# Altium integrated library Linear Technology Charge_Pump.IntLib: 599 symbols (part 4 of 29)
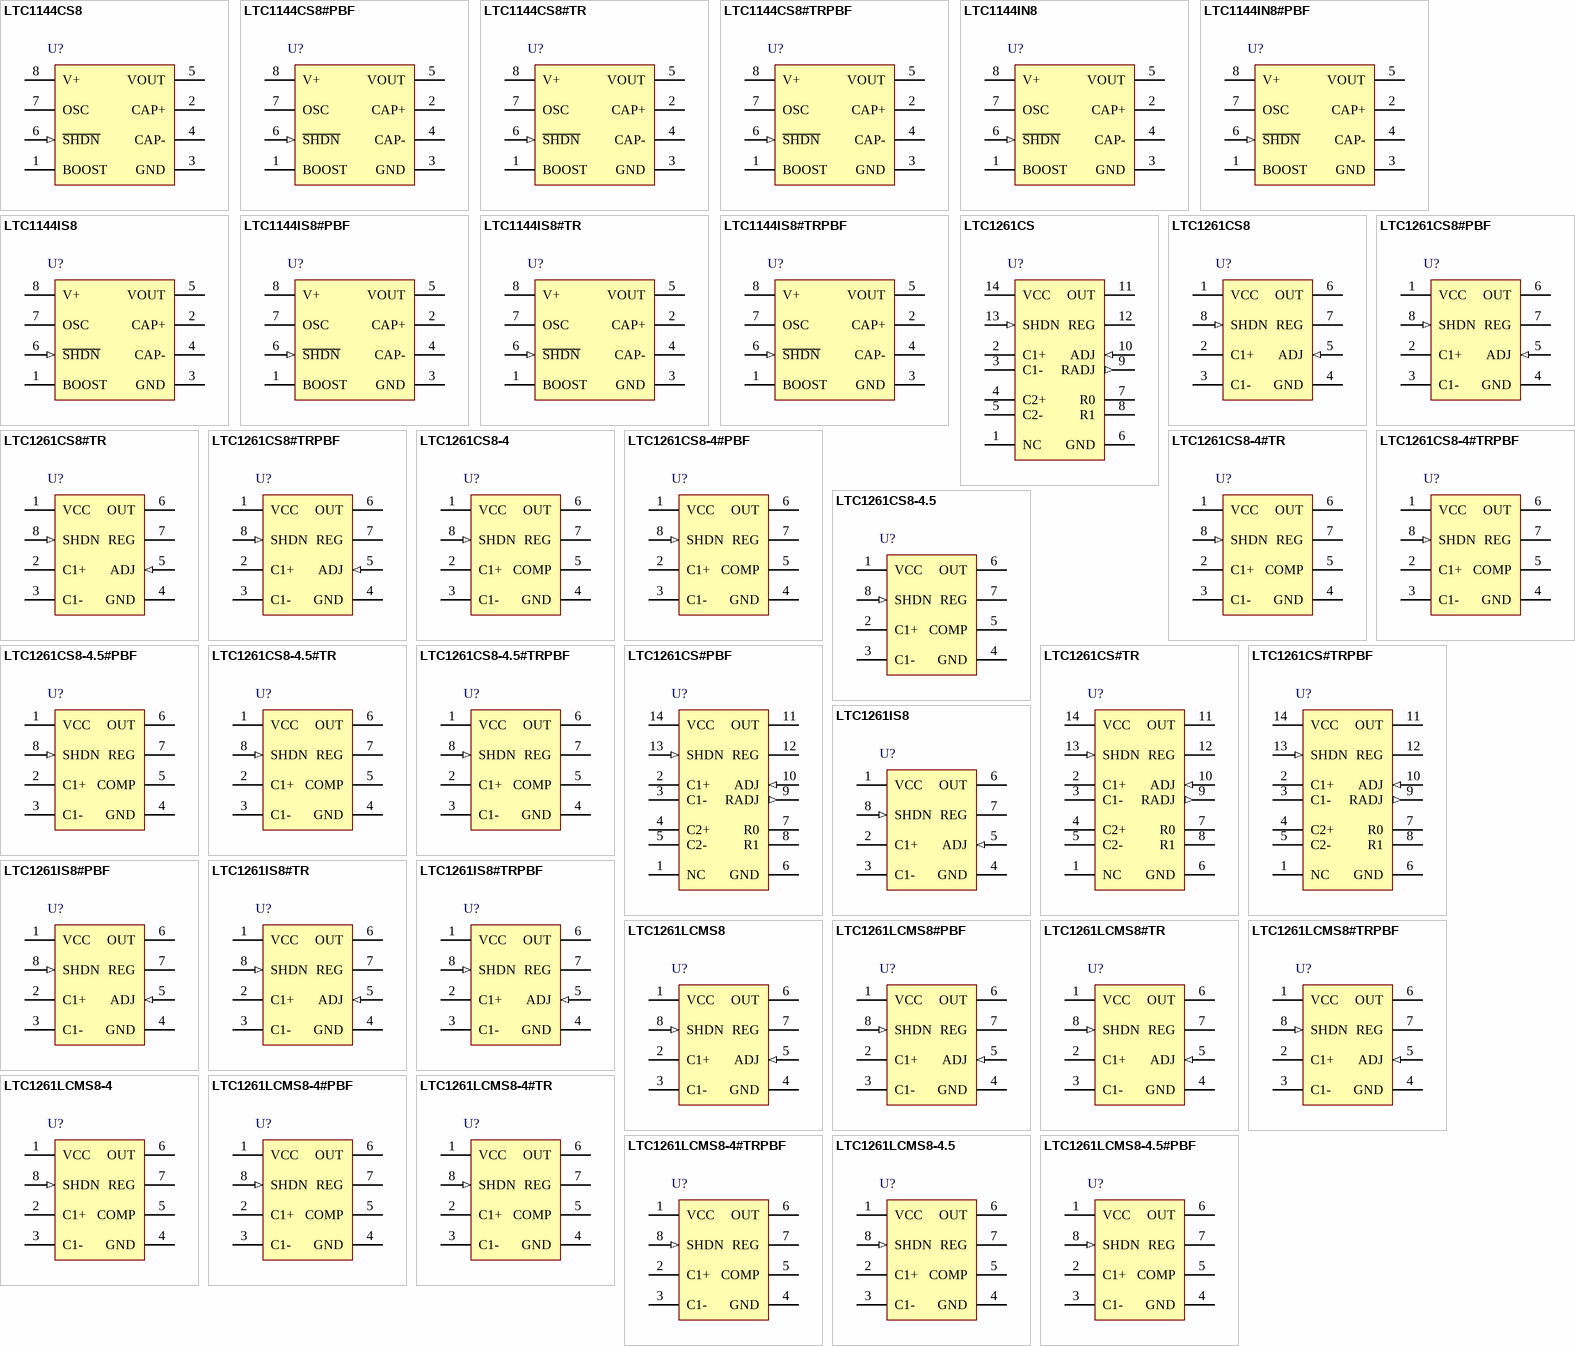
[diagram p19: symbols LTC1144CS8 to LTC1261LCMS8-4.5#PBF]

## LTC1144IS8#TR
designator U?
Switched-Capacitor Wide Input Range Voltage Converter with Shutdown, 8-pin SOIC (S8-8), -40 to 85 degC, Tape and Reel; Manufacturer: Linear Technology; PartNumber: LTC1144IS8#TR; Frequency(kHz): 10; Ishutdown(uA): 8; Isupply(mA): 1.1; Max Iout(mA): 50; Vin Max(V): 18; Vin Min(V): 2; Voutput: 2Vin, -Vin, 0.5Vin; PackageVersion: Rev. G, 03/2012; PackageReference: S8-8; PackageDescription: 8-Pin Plastic Small Outline (Narrow .150 Inch), Body 4.9 x 3.9 mm, Pitch 1.27 mm; Supplier 1: Digi-Key; Supplier Part Number 1: LTC1144IS8#TR-ND; Packing: Tape and Reel; RoHS: FALSE; Mounting Technology: Surface Mount; ComponentLink1Description: Manufacturer URL; ComponentLink1URL: http://www.linear.com/; ComponentLink2Description: Datasheet; ComponentLink2URL: http://cds.linear.com/docs/en/datasheet/lt1144.pdf; ComponentLink3Description: Package Specification; ComponentLink3URL: http://cds.linear.com/docs/en/packaging/05081610_G_SO8.pdf
footprint LT-S8-8_N (SOIC, 8-Leads, Body 5x4mm, Pitch 1.27mm, IPC Medium Density)
footprint LT-S8-8_L (SOIC, 8-Leads, Body 5x4mm, Pitch 1.27mm, IPC High Density)
footprint LT-S8-8_M (SOIC, 8-Leads, Body 5x4mm, Pitch 1.27mm, IPC Low Density)
pins: 1 BOOST "This pin will raise the oscillator frequency by a factor of 10 if tied high.", 2 CAP+ "Positive Terminal for Pump Capacitor.", 3 GND (power) "Ground Reference.", 4 CAP- "Negative Terminal for Pump Capacitor.", 5 VOUT (power) "Output of the Converter.", 6 ~{SHDN} (in) "Shutdown Pin. Tie to V+ pin or leave floating for normal operation. Tie to ground when in shutdown mode.", 7 OSC "Oscillator Input Pin. This pin can be overdriven with an external clock or can be slowed down by connecting an external capacitor between this pin and ground.", 8 V+ (power) "Input Voltage."

## LTC1144IS8#TRPBF
designator U?
Switched-Capacitor Wide Input Range Voltage Converter with Shutdown, 8-pin SOIC (S8-8), -40 to 85 degC, Pb-Free, Tape and Reel; Manufacturer: Linear Technology; PartNumber: LTC1144IS8#TRPBF; Frequency(kHz): 10; Ishutdown(uA): 8; Isupply(mA): 1.1; Max Iout(mA): 50; Vin Max(V): 18; Vin Min(V): 2; Voutput: 2Vin, -Vin, 0.5Vin; PackageVersion: Rev. G, 03/2012; PackageReference: S8-8; PackageDescription: 8-Pin Plastic Small Outline (Narrow .150 Inch), Body 4.9 x 3.9 mm, Pitch 1.27 mm; Supplier 1: Digi-Key; Supplier Part Number 1: LTC1144IS8#TRPBF-ND; Supplier 2: Newark; Supplier Part Number 2: 55M9292; Packing: Tape and Reel; RoHS: TRUE; Mounting Technology: Surface Mount; ComponentLink1Description: Manufacturer URL; ComponentLink1URL: http://www.linear.com/; ComponentLink2Description: Datasheet; ComponentLink2URL: http://cds.linear.com/docs/en/datasheet/lt1144.pdf; ComponentLink3Description: Package Specification; ComponentLink3URL: http://cds.linear.com/docs/en/packaging/05081610_G_SO8.pdf
footprint LT-S8-8_N (SOIC, 8-Leads, Body 5x4mm, Pitch 1.27mm, IPC Medium Density)
footprint LT-S8-8_L (SOIC, 8-Leads, Body 5x4mm, Pitch 1.27mm, IPC High Density)
footprint LT-S8-8_M (SOIC, 8-Leads, Body 5x4mm, Pitch 1.27mm, IPC Low Density)
pins: 1 BOOST "This pin will raise the oscillator frequency by a factor of 10 if tied high.", 2 CAP+ "Positive Terminal for Pump Capacitor.", 3 GND (power) "Ground Reference.", 4 CAP- "Negative Terminal for Pump Capacitor.", 5 VOUT (power) "Output of the Converter.", 6 ~{SHDN} (in) "Shutdown Pin. Tie to V+ pin or leave floating for normal operation. Tie to ground when in shutdown mode.", 7 OSC "Oscillator Input Pin. This pin can be overdriven with an external clock or can be slowed down by connecting an external capacitor between this pin and ground.", 8 V+ (power) "Input Voltage."

## LTC1261CS
designator U?
Switched Capacitor Regulated Voltage Inverter, 3 to 8 V Vin, Adjustable Vout, 14-pin SOIC (S-14), 0 to 70 degC; Manufacturer: Linear Technology; PartNumber: LTC1261CS; Frequency(kHz): 550; Ishutdown(uA): 5; Isupply(mA): 0.6; Max Iout(mA): 12; Vin Max(V): 8; Vin Min(V): 3; Voutput: Adj; DatasheetVersion: Rev. B; PackageVersion: Rev. G, 03/2012; PackageReference: S-14; PackageDescription: 14-Pin Plastic Small Outline, Body 8.65 x 3.9 mm, Pitch 1.27 mm; Supplier 1: Digi-Key; Supplier Part Number 1: LTC1261CS-ND; RoHS: FALSE; Mounting Technology: Surface Mount; ComponentLink1Description: Manufacturer URL; ComponentLink1URL: http://www.linear.com/; ComponentLink2Description: Datasheet; ComponentLink2URL: http://cds.linear.com/docs/en/datasheet/1261fb.pdf; ComponentLink3Description: Package Specification; ComponentLink3URL: http://cds.linear.com/docs/en/packaging/05081610_G_S14.pdf
footprint LT-S-14_N (SOIC, 14-Leads, Body 8.7x4mm, Pitch 1.27mm, IPC Medium Density)
footprint LT-S-14_L (SOIC, 14-Leads, Body 8.7x4mm, Pitch 1.27mm, IPC High Density)
footprint LT-S-14_M (SOIC, 14-Leads, Body 8.7x4mm, Pitch 1.27mm, IPC Low Density)
pins: 1 NC "No Internal Connection.", 2 C1+ "C1 Positive Input. Connect a 0.1uF capacitor between C1+ and C1-. With the LTC1261CS in doubler mode, connect a 0.1uF capacitor from C1+ to C2-.", 3 C1- "C1 Negative Input. Connect a 0.1uF capacitor from C1+ to C1-. With the LTC1261CS in doubler mode only, C1- should float.", 4 C2+ "C2 Positive Input. In tripler mode connect a 0.1uF capacitor from C2+ to C2-. This pin is used with the LTC1261CS in tripler mode only; in doubler mode this pin should float.", 5 C2- "C2 Negative Input. In tripler mode connect a 0.1uF capacitor from C2+ to C2-. In doubler mode connect a 0.1uF capacitor from C1+ to C2-.", 6 GND (power) "Ground. Connect to a low impedance ground. A ground plane will help to minimize regulation errors.", 7 R0 "Internal Resistor String, 1st Tap. See Table 2 in the Applications Information section for information on internal resistor string pin connections vs output voltage.", 8 R1 "Internal Resistor String, 2nd Tap.", 9 RADJ (out) "Internal Resistor String Output. Connect this pin to ADJ to use the internal resistor divider. See Table 2 in the Applications Information section for information on internal resistor string pin connections vs output voltage.", 10 ADJ (in) "Output Adjust/Compensation Pin. For adjustable parts this pin is used to set the output voltage. The output voltage should be divided down with a resistor divider and fed back to this pin to set the regulated output voltage. (See Datasheet)", 11 OUT (power) "Negative Voltage Output. This pin must be bypassed to ground with a 1uF or larger capacitor; it must be at least 3.3uF to provide specified output ripple. The size of the output capacitor has a strong effect on output ripple.(See Datasheet)", 12 REG (oc) "This is an open drain output that pulls low when the output voltage is within 5% of the set value. It will sink 8mA to ground with a 5V supply. The external circuitry must provide a pull-up or REG will not swing high. The (See Datasheet)", 13 SHDN (in) "Shutdown. When this pin is at ground the LTC1261 operates normally. An internal 5uA pull-down keeps SHDN low if it is left floating. When SHDN is pulled high, the LTC1261 enters shutdown mode. In shutdown the charge pump (See Datasheet)", 14 VCC (power) "Power Supply. This requires an input voltage between 3V and 6.5V. Certain combinations of output voltage and operating mode may place additional restrictions on the input voltage. VCC must be bypassed to ground with at least (See Datasheet)"

## LTC1261CS8
designator U?
Switched Capacitor Regulated Voltage Inverter, 3 to 8 V Vin, Adjustable Vout, 8-pin SOIC (S8-8), 0 to 70 degC; Manufacturer: Linear Technology; PartNumber: LTC1261CS8; Frequency(kHz): 550; Ishutdown(uA): 5; Isupply(mA): 0.6; Max Iout(mA): 12; Vin Max(V): 8; Vin Min(V): 3; Voutput: Adj; DatasheetVersion: Rev. B; PackageVersion: Rev. G, 03/2012; PackageReference: S8-8; PackageDescription: 8-Pin Plastic Small Outline (Narrow .150 Inch), Body 4.9 x 3.9 mm, Pitch 1.27 mm; Supplier 1: Digi-Key; Supplier Part Number 1: LTC1261CS8-ND; RoHS: FALSE; Mounting Technology: Surface Mount; ComponentLink1Description: Manufacturer URL; ComponentLink1URL: http://www.linear.com/; ComponentLink2Description: Datasheet; ComponentLink2URL: http://cds.linear.com/docs/en/datasheet/1261fb.pdf; ComponentLink3Description: Package Specification; ComponentLink3URL: http://cds.linear.com/docs/en/packaging/05081610_G_SO8.pdf
footprint LT-S8-8_N (SOIC, 8-Leads, Body 5x4mm, Pitch 1.27mm, IPC Medium Density)
footprint LT-S8-8_L (SOIC, 8-Leads, Body 5x4mm, Pitch 1.27mm, IPC High Density)
footprint LT-S8-8_M (SOIC, 8-Leads, Body 5x4mm, Pitch 1.27mm, IPC Low Density)
pins: 1 VCC (power) "Power Supply.", 2 C1+ "C1 Positive Input. Connect a 0.1uF capacitor between C1+ and C1-.", 3 C1- "C1 Negative Input. Connect a 0.1uF capacitor from C1+ to C1-.", 4 GND (power) "Ground. Connect to a low impedance ground. A ground plane will help to minimize regulation errors.", 5 ADJ (in), 6 OUT (power), 7 REG (oc) "This is an open-drain output that pulls low when the output voltage is within 5% of the set value.", 8 SHDN (in) "Shutdown."

## LTC1261CS8#PBF
designator U?
Switched Capacitor Regulated Voltage Inverter, 3 to 8 V Vin, Adjustable Vout, 8-pin SOIC (S8-8), 0 to 70 degC, Pb-Free; Manufacturer: Linear Technology; PartNumber: LTC1261CS8#PBF; Frequency(kHz): 550; Ishutdown(uA): 5; Isupply(mA): 0.6; Max Iout(mA): 12; Vin Max(V): 8; Vin Min(V): 3; Voutput: Adj; DatasheetVersion: Rev. B; PackageVersion: Rev. G, 03/2012; PackageReference: S8-8; PackageDescription: 8-Pin Plastic Small Outline (Narrow .150 Inch), Body 4.9 x 3.9 mm, Pitch 1.27 mm; Supplier 1: Digi-Key; Supplier Part Number 1: LTC1261CS8#PBF-ND; Supplier 2: Farnell; Supplier Part Number 2: 1273847; Supplier 3: Newark; Supplier Part Number 3: 55M9781; RoHS: TRUE; Mounting Technology: Surface Mount; ComponentLink1Description: Manufacturer URL; ComponentLink1URL: http://www.linear.com/; ComponentLink2Description: Datasheet; ComponentLink2URL: http://cds.linear.com/docs/en/datasheet/1261fb.pdf; ComponentLink3Description: Package Specification; ComponentLink3URL: http://cds.linear.com/docs/en/packaging/05081610_G_SO8.pdf
footprint LT-S8-8_N (SOIC, 8-Leads, Body 5x4mm, Pitch 1.27mm, IPC Medium Density)
footprint LT-S8-8_L (SOIC, 8-Leads, Body 5x4mm, Pitch 1.27mm, IPC High Density)
footprint LT-S8-8_M (SOIC, 8-Leads, Body 5x4mm, Pitch 1.27mm, IPC Low Density)
pins: 1 VCC (power) "Power Supply.", 2 C1+ "C1 Positive Input. Connect a 0.1uF capacitor between C1+ and C1-.", 3 C1- "C1 Negative Input. Connect a 0.1uF capacitor from C1+ to C1-.", 4 GND (power) "Ground. Connect to a low impedance ground. A ground plane will help to minimize regulation errors.", 5 ADJ (in), 6 OUT (power), 7 REG (oc) "This is an open-drain output that pulls low when the output voltage is within 5% of the set value.", 8 SHDN (in) "Shutdown."

## LTC1261CS8#TR
designator U?
Switched Capacitor Regulated Voltage Inverter, 3 to 8 V Vin, Adjustable Vout, 8-pin SOIC (S8-8), 0 to 70 degC, Tape and Reel; Manufacturer: Linear Technology; PartNumber: LTC1261CS8#TR; Frequency(kHz): 550; Ishutdown(uA): 5; Isupply(mA): 0.6; Max Iout(mA): 12; Vin Max(V): 8; Vin Min(V): 3; Voutput: Adj; DatasheetVersion: Rev. B; PackageVersion: Rev. G, 03/2012; PackageReference: S8-8; PackageDescription: 8-Pin Plastic Small Outline (Narrow .150 Inch), Body 4.9 x 3.9 mm, Pitch 1.27 mm; Supplier 1: Digi-Key; Supplier Part Number 1: LTC1261CS8#TR-ND; Packing: Tape and Reel; RoHS: FALSE; Mounting Technology: Surface Mount; ComponentLink1Description: Manufacturer URL; ComponentLink1URL: http://www.linear.com/; ComponentLink2Description: Datasheet; ComponentLink2URL: http://cds.linear.com/docs/en/datasheet/1261fb.pdf; ComponentLink3Description: Package Specification; ComponentLink3URL: http://cds.linear.com/docs/en/packaging/05081610_G_SO8.pdf
footprint LT-S8-8_N (SOIC, 8-Leads, Body 5x4mm, Pitch 1.27mm, IPC Medium Density)
footprint LT-S8-8_L (SOIC, 8-Leads, Body 5x4mm, Pitch 1.27mm, IPC High Density)
footprint LT-S8-8_M (SOIC, 8-Leads, Body 5x4mm, Pitch 1.27mm, IPC Low Density)
pins: 1 VCC (power) "Power Supply.", 2 C1+ "C1 Positive Input. Connect a 0.1uF capacitor between C1+ and C1-.", 3 C1- "C1 Negative Input. Connect a 0.1uF capacitor from C1+ to C1-.", 4 GND (power) "Ground. Connect to a low impedance ground. A ground plane will help to minimize regulation errors.", 5 ADJ (in), 6 OUT (power), 7 REG (oc) "This is an open-drain output that pulls low when the output voltage is within 5% of the set value.", 8 SHDN (in) "Shutdown."

## LTC1261CS8#TRPBF
designator U?
Switched Capacitor Regulated Voltage Inverter, 3 to 8 V Vin, Adjustable Vout, 8-pin SOIC (S8-8), 0 to 70 degC, Pb-Free, Tape and Reel; Manufacturer: Linear Technology; PartNumber: LTC1261CS8#TRPBF; Frequency(kHz): 550; Ishutdown(uA): 5; Isupply(mA): 0.6; Max Iout(mA): 12; Vin Max(V): 8; Vin Min(V): 3; Voutput: Adj; DatasheetVersion: Rev. B; PackageVersion: Rev. G, 03/2012; PackageReference: S8-8; PackageDescription: 8-Pin Plastic Small Outline (Narrow .150 Inch), Body 4.9 x 3.9 mm, Pitch 1.27 mm; Supplier 1: Digi-Key; Supplier Part Number 1: LTC1261CS8#TRPBF-ND; Packing: Tape and Reel; RoHS: TRUE; Mounting Technology: Surface Mount; ComponentLink1Description: Manufacturer URL; ComponentLink1URL: http://www.linear.com/; ComponentLink2Description: Datasheet; ComponentLink2URL: http://cds.linear.com/docs/en/datasheet/1261fb.pdf; ComponentLink3Description: Package Specification; ComponentLink3URL: http://cds.linear.com/docs/en/packaging/05081610_G_SO8.pdf
footprint LT-S8-8_N (SOIC, 8-Leads, Body 5x4mm, Pitch 1.27mm, IPC Medium Density)
footprint LT-S8-8_L (SOIC, 8-Leads, Body 5x4mm, Pitch 1.27mm, IPC High Density)
footprint LT-S8-8_M (SOIC, 8-Leads, Body 5x4mm, Pitch 1.27mm, IPC Low Density)
pins: 1 VCC (power) "Power Supply.", 2 C1+ "C1 Positive Input. Connect a 0.1uF capacitor between C1+ and C1-.", 3 C1- "C1 Negative Input. Connect a 0.1uF capacitor from C1+ to C1-.", 4 GND (power) "Ground. Connect to a low impedance ground. A ground plane will help to minimize regulation errors.", 5 ADJ (in), 6 OUT (power), 7 REG (oc) "This is an open-drain output that pulls low when the output voltage is within 5% of the set value.", 8 SHDN (in) "Shutdown."

## LTC1261CS8-4
designator U?
Switched Capacitor Regulated Voltage Inverter, 3 to 8 V Vin, -4 V Vout, 8-pin SOIC (S8-8), 0 to 70 degC; Manufacturer: Linear Technology; PartNumber: LTC1261CS8-4; Frequency(kHz): 550; Ishutdown(uA): 5; Isupply(mA): 0.6; Max Iout(mA): 12; Vin Max(V): 8; Vin Min(V): 3; Voutput: -4 V; DatasheetVersion: Rev. B; PackageVersion: Rev. G, 03/2012; PackageReference: S8-8; PackageDescription: 8-Pin Plastic Small Outline (Narrow .150 Inch), Body 4.9 x 3.9 mm, Pitch 1.27 mm; Supplier 1: Digi-Key; Supplier Part Number 1: LTC1261CS8-4-ND; RoHS: FALSE; Mounting Technology: Surface Mount; ComponentLink1Description: Manufacturer URL; ComponentLink1URL: http://www.linear.com/; ComponentLink2Description: Datasheet; ComponentLink2URL: http://cds.linear.com/docs/en/datasheet/1261fb.pdf; ComponentLink3Description: Package Specification; ComponentLink3URL: http://cds.linear.com/docs/en/packaging/05081610_G_SO8.pdf
footprint LT-S8-8_N (SOIC, 8-Leads, Body 5x4mm, Pitch 1.27mm, IPC Medium Density)
footprint LT-S8-8_L (SOIC, 8-Leads, Body 5x4mm, Pitch 1.27mm, IPC High Density)
footprint LT-S8-8_M (SOIC, 8-Leads, Body 5x4mm, Pitch 1.27mm, IPC Low Density)
pins: 1 VCC (power), 2 C1+ "C1 Positive Input. Connect a 0.1uF capacitor between C1+ and C1-.", 3 C1- "C1 Negative Input. Connect a 0.1uF capacitor from C1+ to C1-.", 4 GND (power) "Ground. Connect to a low impedance ground. A ground plane will help to minimize regulation errors.", 5 COMP "Output Adjust/Compensation Pin. For adjustable parts this pin is used to set the output voltage. The output voltage should be divided down with a resistor divider and feedback to this pin to set the regulated output voltage. (See Datasheet)", 6 OUT (power), 7 REG (oc) "This is an open drain output that pulls low when the output voltage is within 5% of the set value. It will sink 8mA to ground with a 5V supply. The external circuitry must provide a pull-up or REG will not swing high. The (See Datasheet)", 8 SHDN (in)

## LTC1261CS8-4#PBF
designator U?
Switched Capacitor Regulated Voltage Inverter, 3 to 8 V Vin, -4 V Vout, 8-pin SOIC (S8-8), 0 to 70 degC, Pb-Free; Manufacturer: Linear Technology; PartNumber: LTC1261CS8-4#PBF; Frequency(kHz): 550; Ishutdown(uA): 5; Isupply(mA): 0.6; Max Iout(mA): 12; Vin Max(V): 8; Vin Min(V): 3; Voutput: -4 V; DatasheetVersion: Rev. B; PackageVersion: Rev. G, 03/2012; PackageReference: S8-8; PackageDescription: 8-Pin Plastic Small Outline (Narrow .150 Inch), Body 4.9 x 3.9 mm, Pitch 1.27 mm; Supplier 1: Digi-Key; Supplier Part Number 1: LTC1261CS8-4#PBF-ND; Supplier 2: Newark; Supplier Part Number 2: 55M9778; RoHS: TRUE; Mounting Technology: Surface Mount; ComponentLink1Description: Manufacturer URL; ComponentLink1URL: http://www.linear.com/; ComponentLink2Description: Datasheet; ComponentLink2URL: http://cds.linear.com/docs/en/datasheet/1261fb.pdf; ComponentLink3Description: Package Specification; ComponentLink3URL: http://cds.linear.com/docs/en/packaging/05081610_G_SO8.pdf
footprint LT-S8-8_N (SOIC, 8-Leads, Body 5x4mm, Pitch 1.27mm, IPC Medium Density)
footprint LT-S8-8_L (SOIC, 8-Leads, Body 5x4mm, Pitch 1.27mm, IPC High Density)
footprint LT-S8-8_M (SOIC, 8-Leads, Body 5x4mm, Pitch 1.27mm, IPC Low Density)
pins: 1 VCC (power), 2 C1+ "C1 Positive Input. Connect a 0.1uF capacitor between C1+ and C1-.", 3 C1- "C1 Negative Input. Connect a 0.1uF capacitor from C1+ to C1-.", 4 GND (power) "Ground. Connect to a low impedance ground. A ground plane will help to minimize regulation errors.", 5 COMP "Output Adjust/Compensation Pin. For adjustable parts this pin is used to set the output voltage. The output voltage should be divided down with a resistor divider and feedback to this pin to set the regulated output voltage. (See Datasheet)", 6 OUT (power), 7 REG (oc) "This is an open drain output that pulls low when the output voltage is within 5% of the set value. It will sink 8mA to ground with a 5V supply. The external circuitry must provide a pull-up or REG will not swing high. The (See Datasheet)", 8 SHDN (in)

## LTC1261CS8-4#TR
designator U?
Switched Capacitor Regulated Voltage Inverter, 3 to 8 V Vin, -4 V Vout, 8-pin SOIC (S8-8), 0 to 70 degC, Tape and Reel; Manufacturer: Linear Technology; PartNumber: LTC1261CS8-4#TR; Frequency(kHz): 550; Ishutdown(uA): 5; Isupply(mA): 0.6; Max Iout(mA): 12; Vin Max(V): 8; Vin Min(V): 3; Voutput: -4 V; DatasheetVersion: Rev. B; PackageVersion: Rev. G, 03/2012; PackageReference: S8-8; PackageDescription: 8-Pin Plastic Small Outline (Narrow .150 Inch), Body 4.9 x 3.9 mm, Pitch 1.27 mm; Supplier 1: Digi-Key; Supplier Part Number 1: LTC1261CS8-4#TR-ND; Packing: Tape and Reel; RoHS: FALSE; Mounting Technology: Surface Mount; ComponentLink1Description: Manufacturer URL; ComponentLink1URL: http://www.linear.com/; ComponentLink2Description: Datasheet; ComponentLink2URL: http://cds.linear.com/docs/en/datasheet/1261fb.pdf; ComponentLink3Description: Package Specification; ComponentLink3URL: http://cds.linear.com/docs/en/packaging/05081610_G_SO8.pdf
footprint LT-S8-8_N (SOIC, 8-Leads, Body 5x4mm, Pitch 1.27mm, IPC Medium Density)
footprint LT-S8-8_L (SOIC, 8-Leads, Body 5x4mm, Pitch 1.27mm, IPC High Density)
footprint LT-S8-8_M (SOIC, 8-Leads, Body 5x4mm, Pitch 1.27mm, IPC Low Density)
pins: 1 VCC (power), 2 C1+ "C1 Positive Input. Connect a 0.1uF capacitor between C1+ and C1-.", 3 C1- "C1 Negative Input. Connect a 0.1uF capacitor from C1+ to C1-.", 4 GND (power) "Ground. Connect to a low impedance ground. A ground plane will help to minimize regulation errors.", 5 COMP "Output Adjust/Compensation Pin. For adjustable parts this pin is used to set the output voltage. The output voltage should be divided down with a resistor divider and feedback to this pin to set the regulated output voltage. (See Datasheet)", 6 OUT (power), 7 REG (oc) "This is an open drain output that pulls low when the output voltage is within 5% of the set value. It will sink 8mA to ground with a 5V supply. The external circuitry must provide a pull-up or REG will not swing high. The (See Datasheet)", 8 SHDN (in)

## LTC1261CS8-4#TRPBF
designator U?
Switched Capacitor Regulated Voltage Inverter, 3 to 8 V Vin, -4 V Vout, 8-pin SOIC (S8-8), 0 to 70 degC, Pb-Free, Tape and Reel; Manufacturer: Linear Technology; PartNumber: LTC1261CS8-4#TRPBF; Frequency(kHz): 550; Ishutdown(uA): 5; Isupply(mA): 0.6; Max Iout(mA): 12; Vin Max(V): 8; Vin Min(V): 3; Voutput: -4 V; DatasheetVersion: Rev. B; PackageVersion: Rev. G, 03/2012; PackageReference: S8-8; PackageDescription: 8-Pin Plastic Small Outline (Narrow .150 Inch), Body 4.9 x 3.9 mm, Pitch 1.27 mm; Supplier 1: Digi-Key; Supplier Part Number 1: LTC1261CS8-4#TRPBF-ND; Packing: Tape and Reel; RoHS: TRUE; Mounting Technology: Surface Mount; ComponentLink1Description: Manufacturer URL; ComponentLink1URL: http://www.linear.com/; ComponentLink2Description: Datasheet; ComponentLink2URL: http://cds.linear.com/docs/en/datasheet/1261fb.pdf; ComponentLink3Description: Package Specification; ComponentLink3URL: http://cds.linear.com/docs/en/packaging/05081610_G_SO8.pdf
footprint LT-S8-8_N (SOIC, 8-Leads, Body 5x4mm, Pitch 1.27mm, IPC Medium Density)
footprint LT-S8-8_L (SOIC, 8-Leads, Body 5x4mm, Pitch 1.27mm, IPC High Density)
footprint LT-S8-8_M (SOIC, 8-Leads, Body 5x4mm, Pitch 1.27mm, IPC Low Density)
pins: 1 VCC (power), 2 C1+ "C1 Positive Input. Connect a 0.1uF capacitor between C1+ and C1-.", 3 C1- "C1 Negative Input. Connect a 0.1uF capacitor from C1+ to C1-.", 4 GND (power) "Ground. Connect to a low impedance ground. A ground plane will help to minimize regulation errors.", 5 COMP "Output Adjust/Compensation Pin. For adjustable parts this pin is used to set the output voltage. The output voltage should be divided down with a resistor divider and feedback to this pin to set the regulated output voltage. (See Datasheet)", 6 OUT (power), 7 REG (oc) "This is an open drain output that pulls low when the output voltage is within 5% of the set value. It will sink 8mA to ground with a 5V supply. The external circuitry must provide a pull-up or REG will not swing high. The (See Datasheet)", 8 SHDN (in)

## LTC1261CS8-4.5
designator U?
Switched Capacitor Regulated Voltage Inverter, 3 to 8 V Vin, -4.5 V Vout, 8-pin SOIC (S8-8), 0 to 70 degC; Manufacturer: Linear Technology; PartNumber: LTC1261CS8-4.5; Frequency(kHz): 550; Ishutdown(uA): 5; Isupply(mA): 0.6; Max Iout(mA): 12; Vin Max(V): 8; Vin Min(V): 3; Voutput: -4.5 V; DatasheetVersion: Rev. B; PackageVersion: Rev. G, 03/2012; PackageReference: S8-8; PackageDescription: 8-Pin Plastic Small Outline (Narrow .150 Inch), Body 4.9 x 3.9 mm, Pitch 1.27 mm; Supplier 1: Digi-Key; Supplier Part Number 1: LTC1261CS8-4.5-ND; RoHS: FALSE; Mounting Technology: Surface Mount; ComponentLink1Description: Manufacturer URL; ComponentLink1URL: http://www.linear.com/; ComponentLink2Description: Datasheet; ComponentLink2URL: http://cds.linear.com/docs/en/datasheet/1261fb.pdf; ComponentLink3Description: Package Specification; ComponentLink3URL: http://cds.linear.com/docs/en/packaging/05081610_G_SO8.pdf
footprint LT-S8-8_N (SOIC, 8-Leads, Body 5x4mm, Pitch 1.27mm, IPC Medium Density)
footprint LT-S8-8_L (SOIC, 8-Leads, Body 5x4mm, Pitch 1.27mm, IPC High Density)
footprint LT-S8-8_M (SOIC, 8-Leads, Body 5x4mm, Pitch 1.27mm, IPC Low Density)
pins: 1 VCC (power), 2 C1+ "C1 Positive Input. Connect a 0.1uF capacitor between C1+ and C1-.", 3 C1- "C1 Negative Input. Connect a 0.1uF capacitor from C1+ to C1-.", 4 GND (power) "Ground. Connect to a low impedance ground. A ground plane will help to minimize regulation errors.", 5 COMP "Output Adjust/Compensation Pin. For adjustable parts this pin is used to set the output voltage. The output voltage should be divided down with a resistor divider and feedback to this pin to set the regulated output voltage. (See Datasheet)", 6 OUT (power), 7 REG (oc) "This is an open drain output that pulls low when the output voltage is within 5% of the set value. It will sink 8mA to ground with a 5V supply. The external circuitry must provide a pull-up or REG will not swing high. The (See Datasheet)", 8 SHDN (in)

## LTC1261CS8-4.5#PBF
designator U?
Switched Capacitor Regulated Voltage Inverter, 3 to 8 V Vin, -4.5 V Vout, 8-pin SOIC (S8-8), 0 to 70 degC, Pb-Free; Manufacturer: Linear Technology; PartNumber: LTC1261CS8-4.5#PBF; Frequency(kHz): 550; Ishutdown(uA): 5; Isupply(mA): 0.6; Max Iout(mA): 12; Vin Max(V): 8; Vin Min(V): 3; Voutput: -4.5 V; DatasheetVersion: Rev. B; PackageVersion: Rev. G, 03/2012; PackageReference: S8-8; PackageDescription: 8-Pin Plastic Small Outline (Narrow .150 Inch), Body 4.9 x 3.9 mm, Pitch 1.27 mm; Supplier 1: Digi-Key; Supplier Part Number 1: LTC1261CS8-4.5#PBF-ND; RoHS: TRUE; Mounting Technology: Surface Mount; ComponentLink1Description: Manufacturer URL; ComponentLink1URL: http://www.linear.com/; ComponentLink2Description: Datasheet; ComponentLink2URL: http://cds.linear.com/docs/en/datasheet/1261fb.pdf; ComponentLink3Description: Package Specification; ComponentLink3URL: http://cds.linear.com/docs/en/packaging/05081610_G_SO8.pdf
footprint LT-S8-8_N (SOIC, 8-Leads, Body 5x4mm, Pitch 1.27mm, IPC Medium Density)
footprint LT-S8-8_L (SOIC, 8-Leads, Body 5x4mm, Pitch 1.27mm, IPC High Density)
footprint LT-S8-8_M (SOIC, 8-Leads, Body 5x4mm, Pitch 1.27mm, IPC Low Density)
pins: 1 VCC (power), 2 C1+ "C1 Positive Input. Connect a 0.1uF capacitor between C1+ and C1-.", 3 C1- "C1 Negative Input. Connect a 0.1uF capacitor from C1+ to C1-.", 4 GND (power) "Ground. Connect to a low impedance ground. A ground plane will help to minimize regulation errors.", 5 COMP "Output Adjust/Compensation Pin. For adjustable parts this pin is used to set the output voltage. The output voltage should be divided down with a resistor divider and feedback to this pin to set the regulated output voltage. (See Datasheet)", 6 OUT (power), 7 REG (oc) "This is an open drain output that pulls low when the output voltage is within 5% of the set value. It will sink 8mA to ground with a 5V supply. The external circuitry must provide a pull-up or REG will not swing high. The (See Datasheet)", 8 SHDN (in)

## LTC1261CS8-4.5#TR
designator U?
Switched Capacitor Regulated Voltage Inverter, 3 to 8 V Vin, -4.5 V Vout, 8-pin SOIC (S8-8), 0 to 70 degC, Tape and Reel; Manufacturer: Linear Technology; PartNumber: LTC1261CS8-4.5#TR; Frequency(kHz): 550; Ishutdown(uA): 5; Isupply(mA): 0.6; Max Iout(mA): 12; Vin Max(V): 8; Vin Min(V): 3; Voutput: -4.5 V; DatasheetVersion: Rev. B; PackageVersion: Rev. G, 03/2012; PackageReference: S8-8; PackageDescription: 8-Pin Plastic Small Outline (Narrow .150 Inch), Body 4.9 x 3.9 mm, Pitch 1.27 mm; Supplier 1: Digi-Key; Supplier Part Number 1: LTC1261CS8-4.5#TR-ND; Packing: Tape and Reel; RoHS: FALSE; Mounting Technology: Surface Mount; ComponentLink1Description: Manufacturer URL; ComponentLink1URL: http://www.linear.com/; ComponentLink2Description: Datasheet; ComponentLink2URL: http://cds.linear.com/docs/en/datasheet/1261fb.pdf; ComponentLink3Description: Package Specification; ComponentLink3URL: http://cds.linear.com/docs/en/packaging/05081610_G_SO8.pdf
footprint LT-S8-8_N (SOIC, 8-Leads, Body 5x4mm, Pitch 1.27mm, IPC Medium Density)
footprint LT-S8-8_L (SOIC, 8-Leads, Body 5x4mm, Pitch 1.27mm, IPC High Density)
footprint LT-S8-8_M (SOIC, 8-Leads, Body 5x4mm, Pitch 1.27mm, IPC Low Density)
pins: 1 VCC (power), 2 C1+ "C1 Positive Input. Connect a 0.1uF capacitor between C1+ and C1-.", 3 C1- "C1 Negative Input. Connect a 0.1uF capacitor from C1+ to C1-.", 4 GND (power) "Ground. Connect to a low impedance ground. A ground plane will help to minimize regulation errors.", 5 COMP "Output Adjust/Compensation Pin. For adjustable parts this pin is used to set the output voltage. The output voltage should be divided down with a resistor divider and feedback to this pin to set the regulated output voltage. (See Datasheet)", 6 OUT (power), 7 REG (oc) "This is an open drain output that pulls low when the output voltage is within 5% of the set value. It will sink 8mA to ground with a 5V supply. The external circuitry must provide a pull-up or REG will not swing high. The (See Datasheet)", 8 SHDN (in)

## LTC1261CS8-4.5#TRPBF
designator U?
Switched Capacitor Regulated Voltage Inverter, 3 to 8 V Vin, -4.5 V Vout, 8-pin SOIC (S8-8), 0 to 70 degC, Pb-Free, Tape and Reel; Manufacturer: Linear Technology; PartNumber: LTC1261CS8-4.5#TRPBF; Frequency(kHz): 550; Ishutdown(uA): 5; Isupply(mA): 0.6; Max Iout(mA): 12; Vin Max(V): 8; Vin Min(V): 3; Voutput: -4.5 V; DatasheetVersion: Rev. B; PackageVersion: Rev. G, 03/2012; PackageReference: S8-8; PackageDescription: 8-Pin Plastic Small Outline (Narrow .150 Inch), Body 4.9 x 3.9 mm, Pitch 1.27 mm; Supplier 1: Digi-Key; Supplier Part Number 1: LTC1261CS8-4.5#TRPBF-ND; Packing: Tape and Reel; RoHS: TRUE; Mounting Technology: Surface Mount; ComponentLink1Description: Manufacturer URL; ComponentLink1URL: http://www.linear.com/; ComponentLink2Description: Datasheet; ComponentLink2URL: http://cds.linear.com/docs/en/datasheet/1261fb.pdf; ComponentLink3Description: Package Specification; ComponentLink3URL: http://cds.linear.com/docs/en/packaging/05081610_G_SO8.pdf
footprint LT-S8-8_N (SOIC, 8-Leads, Body 5x4mm, Pitch 1.27mm, IPC Medium Density)
footprint LT-S8-8_L (SOIC, 8-Leads, Body 5x4mm, Pitch 1.27mm, IPC High Density)
footprint LT-S8-8_M (SOIC, 8-Leads, Body 5x4mm, Pitch 1.27mm, IPC Low Density)
pins: 1 VCC (power), 2 C1+ "C1 Positive Input. Connect a 0.1uF capacitor between C1+ and C1-.", 3 C1- "C1 Negative Input. Connect a 0.1uF capacitor from C1+ to C1-.", 4 GND (power) "Ground. Connect to a low impedance ground. A ground plane will help to minimize regulation errors.", 5 COMP "Output Adjust/Compensation Pin. For adjustable parts this pin is used to set the output voltage. The output voltage should be divided down with a resistor divider and feedback to this pin to set the regulated output voltage. (See Datasheet)", 6 OUT (power), 7 REG (oc) "This is an open drain output that pulls low when the output voltage is within 5% of the set value. It will sink 8mA to ground with a 5V supply. The external circuitry must provide a pull-up or REG will not swing high. The (See Datasheet)", 8 SHDN (in)

## LTC1261CS#PBF
designator U?
Switched Capacitor Regulated Voltage Inverter, 3 to 8 V Vin, Adjustable Vout, 14-pin SOIC (S-14), 0 to 70 degC, Pb-Free; Manufacturer: Linear Technology; PartNumber: LTC1261CS#PBF; Frequency(kHz): 550; Ishutdown(uA): 5; Isupply(mA): 0.6; Max Iout(mA): 12; Vin Max(V): 8; Vin Min(V): 3; Voutput: Adj; DatasheetVersion: Rev. B; PackageVersion: Rev. G, 03/2012; PackageReference: S-14; PackageDescription: 14-Pin Plastic Small Outline, Body 8.65 x 3.9 mm, Pitch 1.27 mm; Supplier 1: Digi-Key; Supplier Part Number 1: LTC1261CS#PBF-ND; RoHS: TRUE; Mounting Technology: Surface Mount; ComponentLink1Description: Manufacturer URL; ComponentLink1URL: http://www.linear.com/; ComponentLink2Description: Datasheet; ComponentLink2URL: http://cds.linear.com/docs/en/datasheet/1261fb.pdf; ComponentLink3Description: Package Specification; ComponentLink3URL: http://cds.linear.com/docs/en/packaging/05081610_G_S14.pdf
footprint LT-S-14_N (SOIC, 14-Leads, Body 8.7x4mm, Pitch 1.27mm, IPC Medium Density)
footprint LT-S-14_L (SOIC, 14-Leads, Body 8.7x4mm, Pitch 1.27mm, IPC High Density)
footprint LT-S-14_M (SOIC, 14-Leads, Body 8.7x4mm, Pitch 1.27mm, IPC Low Density)
pins: 1 NC "No Internal Connection.", 2 C1+ "C1 Positive Input. Connect a 0.1uF capacitor between C1+ and C1-. With the LTC1261CS in doubler mode, connect a 0.1uF capacitor from C1+ to C2-.", 3 C1- "C1 Negative Input. Connect a 0.1uF capacitor from C1+ to C1-. With the LTC1261CS in doubler mode only, C1- should float.", 4 C2+ "C2 Positive Input. In tripler mode connect a 0.1uF capacitor from C2+ to C2-. This pin is used with the LTC1261CS in tripler mode only; in doubler mode this pin should float.", 5 C2- "C2 Negative Input. In tripler mode connect a 0.1uF capacitor from C2+ to C2-. In doubler mode connect a 0.1uF capacitor from C1+ to C2-.", 6 GND (power) "Ground. Connect to a low impedance ground. A ground plane will help to minimize regulation errors.", 7 R0 "Internal Resistor String, 1st Tap. See Table 2 in the Applications Information section for information on internal resistor string pin connections vs output voltage.", 8 R1 "Internal Resistor String, 2nd Tap.", 9 RADJ (out) "Internal Resistor String Output. Connect this pin to ADJ to use the internal resistor divider. See Table 2 in the Applications Information section for information on internal resistor string pin connections vs output voltage.", 10 ADJ (in) "Output Adjust/Compensation Pin. For adjustable parts this pin is used to set the output voltage. The output voltage should be divided down with a resistor divider and fed back to this pin to set the regulated output voltage. (See Datasheet)", 11 OUT (power) "Negative Voltage Output. This pin must be bypassed to ground with a 1uF or larger capacitor; it must be at least 3.3uF to provide specified output ripple. The size of the output capacitor has a strong effect on output ripple.(See Datasheet)", 12 REG (oc) "This is an open drain output that pulls low when the output voltage is within 5% of the set value. It will sink 8mA to ground with a 5V supply. The external circuitry must provide a pull-up or REG will not swing high. The (See Datasheet)", 13 SHDN (in) "Shutdown. When this pin is at ground the LTC1261 operates normally. An internal 5uA pull-down keeps SHDN low if it is left floating. When SHDN is pulled high, the LTC1261 enters shutdown mode. In shutdown the charge pump (See Datasheet)", 14 VCC (power) "Power Supply. This requires an input voltage between 3V and 6.5V. Certain combinations of output voltage and operating mode may place additional restrictions on the input voltage. VCC must be bypassed to ground with at least (See Datasheet)"

## LTC1261CS#TR
designator U?
Switched Capacitor Regulated Voltage Inverter, 3 to 8 V Vin, Adjustable Vout, 14-pin SOIC (S-14), 0 to 70 degC, Tape and Reel; Manufacturer: Linear Technology; PartNumber: LTC1261CS#TR; Frequency(kHz): 550; Ishutdown(uA): 5; Isupply(mA): 0.6; Max Iout(mA): 12; Vin Max(V): 8; Vin Min(V): 3; Voutput: Adj; DatasheetVersion: Rev. B; PackageVersion: Rev. G, 03/2012; PackageReference: S-14; PackageDescription: 14-Pin Plastic Small Outline, Body 8.65 x 3.9 mm, Pitch 1.27 mm; Supplier 1: Digi-Key; Supplier Part Number 1: LTC1261CS#TR-ND; Packing: Tape and Reel; RoHS: FALSE; Mounting Technology: Surface Mount; ComponentLink1Description: Manufacturer URL; ComponentLink1URL: http://www.linear.com/; ComponentLink2Description: Datasheet; ComponentLink2URL: http://cds.linear.com/docs/en/datasheet/1261fb.pdf; ComponentLink3Description: Package Specification; ComponentLink3URL: http://cds.linear.com/docs/en/packaging/05081610_G_S14.pdf
footprint LT-S-14_N (SOIC, 14-Leads, Body 8.7x4mm, Pitch 1.27mm, IPC Medium Density)
footprint LT-S-14_L (SOIC, 14-Leads, Body 8.7x4mm, Pitch 1.27mm, IPC High Density)
footprint LT-S-14_M (SOIC, 14-Leads, Body 8.7x4mm, Pitch 1.27mm, IPC Low Density)
pins: 1 NC "No Internal Connection.", 2 C1+ "C1 Positive Input. Connect a 0.1uF capacitor between C1+ and C1-. With the LTC1261CS in doubler mode, connect a 0.1uF capacitor from C1+ to C2-.", 3 C1- "C1 Negative Input. Connect a 0.1uF capacitor from C1+ to C1-. With the LTC1261CS in doubler mode only, C1- should float.", 4 C2+ "C2 Positive Input. In tripler mode connect a 0.1uF capacitor from C2+ to C2-. This pin is used with the LTC1261CS in tripler mode only; in doubler mode this pin should float.", 5 C2- "C2 Negative Input. In tripler mode connect a 0.1uF capacitor from C2+ to C2-. In doubler mode connect a 0.1uF capacitor from C1+ to C2-.", 6 GND (power) "Ground. Connect to a low impedance ground. A ground plane will help to minimize regulation errors.", 7 R0 "Internal Resistor String, 1st Tap. See Table 2 in the Applications Information section for information on internal resistor string pin connections vs output voltage.", 8 R1 "Internal Resistor String, 2nd Tap.", 9 RADJ (out) "Internal Resistor String Output. Connect this pin to ADJ to use the internal resistor divider. See Table 2 in the Applications Information section for information on internal resistor string pin connections vs output voltage.", 10 ADJ (in) "Output Adjust/Compensation Pin. For adjustable parts this pin is used to set the output voltage. The output voltage should be divided down with a resistor divider and fed back to this pin to set the regulated output voltage. (See Datasheet)", 11 OUT (power) "Negative Voltage Output. This pin must be bypassed to ground with a 1uF or larger capacitor; it must be at least 3.3uF to provide specified output ripple. The size of the output capacitor has a strong effect on output ripple.(See Datasheet)", 12 REG (oc) "This is an open drain output that pulls low when the output voltage is within 5% of the set value. It will sink 8mA to ground with a 5V supply. The external circuitry must provide a pull-up or REG will not swing high. The (See Datasheet)", 13 SHDN (in) "Shutdown. When this pin is at ground the LTC1261 operates normally. An internal 5uA pull-down keeps SHDN low if it is left floating. When SHDN is pulled high, the LTC1261 enters shutdown mode. In shutdown the charge pump (See Datasheet)", 14 VCC (power) "Power Supply. This requires an input voltage between 3V and 6.5V. Certain combinations of output voltage and operating mode may place additional restrictions on the input voltage. VCC must be bypassed to ground with at least (See Datasheet)"

## LTC1261CS#TRPBF
designator U?
Switched Capacitor Regulated Voltage Inverter, 3 to 8 V Vin, Adjustable Vout, 14-pin SOIC (S-14), 0 to 70 degC, Pb-Free, Tape and Reel; Manufacturer: Linear Technology; PartNumber: LTC1261CS#TRPBF; Frequency(kHz): 550; Ishutdown(uA): 5; Isupply(mA): 0.6; Max Iout(mA): 12; Vin Max(V): 8; Vin Min(V): 3; Voutput: Adj; DatasheetVersion: Rev. B; PackageVersion: Rev. G, 03/2012; PackageReference: S-14; PackageDescription: 14-Pin Plastic Small Outline, Body 8.65 x 3.9 mm, Pitch 1.27 mm; Supplier 1: Digi-Key; Supplier Part Number 1: LTC1261CS#TRPBF-ND; Packing: Tape and Reel; RoHS: TRUE; Mounting Technology: Surface Mount; ComponentLink1Description: Manufacturer URL; ComponentLink1URL: http://www.linear.com/; ComponentLink2Description: Datasheet; ComponentLink2URL: http://cds.linear.com/docs/en/datasheet/1261fb.pdf; ComponentLink3Description: Package Specification; ComponentLink3URL: http://cds.linear.com/docs/en/packaging/05081610_G_S14.pdf
footprint LT-S-14_N (SOIC, 14-Leads, Body 8.7x4mm, Pitch 1.27mm, IPC Medium Density)
footprint LT-S-14_L (SOIC, 14-Leads, Body 8.7x4mm, Pitch 1.27mm, IPC High Density)
footprint LT-S-14_M (SOIC, 14-Leads, Body 8.7x4mm, Pitch 1.27mm, IPC Low Density)
pins: 1 NC "No Internal Connection.", 2 C1+ "C1 Positive Input. Connect a 0.1uF capacitor between C1+ and C1-. With the LTC1261CS in doubler mode, connect a 0.1uF capacitor from C1+ to C2-.", 3 C1- "C1 Negative Input. Connect a 0.1uF capacitor from C1+ to C1-. With the LTC1261CS in doubler mode only, C1- should float.", 4 C2+ "C2 Positive Input. In tripler mode connect a 0.1uF capacitor from C2+ to C2-. This pin is used with the LTC1261CS in tripler mode only; in doubler mode this pin should float.", 5 C2- "C2 Negative Input. In tripler mode connect a 0.1uF capacitor from C2+ to C2-. In doubler mode connect a 0.1uF capacitor from C1+ to C2-.", 6 GND (power) "Ground. Connect to a low impedance ground. A ground plane will help to minimize regulation errors.", 7 R0 "Internal Resistor String, 1st Tap. See Table 2 in the Applications Information section for information on internal resistor string pin connections vs output voltage.", 8 R1 "Internal Resistor String, 2nd Tap.", 9 RADJ (out) "Internal Resistor String Output. Connect this pin to ADJ to use the internal resistor divider. See Table 2 in the Applications Information section for information on internal resistor string pin connections vs output voltage.", 10 ADJ (in) "Output Adjust/Compensation Pin. For adjustable parts this pin is used to set the output voltage. The output voltage should be divided down with a resistor divider and fed back to this pin to set the regulated output voltage. (See Datasheet)", 11 OUT (power) "Negative Voltage Output. This pin must be bypassed to ground with a 1uF or larger capacitor; it must be at least 3.3uF to provide specified output ripple. The size of the output capacitor has a strong effect on output ripple.(See Datasheet)", 12 REG (oc) "This is an open drain output that pulls low when the output voltage is within 5% of the set value. It will sink 8mA to ground with a 5V supply. The external circuitry must provide a pull-up or REG will not swing high. The (See Datasheet)", 13 SHDN (in) "Shutdown. When this pin is at ground the LTC1261 operates normally. An internal 5uA pull-down keeps SHDN low if it is left floating. When SHDN is pulled high, the LTC1261 enters shutdown mode. In shutdown the charge pump (See Datasheet)", 14 VCC (power) "Power Supply. This requires an input voltage between 3V and 6.5V. Certain combinations of output voltage and operating mode may place additional restrictions on the input voltage. VCC must be bypassed to ground with at least (See Datasheet)"

## LTC1261IS8
designator U?
Switched Capacitor Regulated Voltage Inverter, 3 to 8 V Vin, Adjustable Vout, 8-pin SOIC (S8-8), -40 to 85 degC; Manufacturer: Linear Technology; PartNumber: LTC1261IS8; Frequency(kHz): 550; Ishutdown(uA): 5; Isupply(mA): 0.6; Max Iout(mA): 12; Vin Max(V): 8; Vin Min(V): 3; Voutput: Adj; DatasheetVersion: Rev. B; PackageVersion: Rev. G, 03/2012; PackageReference: S8-8; PackageDescription: 8-Pin Plastic Small Outline (Narrow .150 Inch), Body 4.9 x 3.9 mm, Pitch 1.27 mm; Supplier 1: Digi-Key; Supplier Part Number 1: LTC1261IS8-ND; RoHS: FALSE; Mounting Technology: Surface Mount; ComponentLink1Description: Manufacturer URL; ComponentLink1URL: http://www.linear.com/; ComponentLink2Description: Datasheet; ComponentLink2URL: http://cds.linear.com/docs/en/datasheet/1261fb.pdf; ComponentLink3Description: Package Specification; ComponentLink3URL: http://cds.linear.com/docs/en/packaging/05081610_G_SO8.pdf
footprint LT-S8-8_N (SOIC, 8-Leads, Body 5x4mm, Pitch 1.27mm, IPC Medium Density)
footprint LT-S8-8_L (SOIC, 8-Leads, Body 5x4mm, Pitch 1.27mm, IPC High Density)
footprint LT-S8-8_M (SOIC, 8-Leads, Body 5x4mm, Pitch 1.27mm, IPC Low Density)
pins: 1 VCC (power) "Power Supply.", 2 C1+ "C1 Positive Input. Connect a 0.1uF capacitor between C1+ and C1-.", 3 C1- "C1 Negative Input. Connect a 0.1uF capacitor from C1+ to C1-.", 4 GND (power) "Ground. Connect to a low impedance ground. A ground plane will help to minimize regulation errors.", 5 ADJ (in), 6 OUT (power), 7 REG (oc) "This is an open-drain output that pulls low when the output voltage is within 5% of the set value.", 8 SHDN (in) "Shutdown."

## LTC1261IS8#PBF
designator U?
Switched Capacitor Regulated Voltage Inverter, 3 to 8 V Vin, Adjustable Vout, 8-pin SOIC (S8-8), -40 to 85 degC, Pb-Free; Manufacturer: Linear Technology; PartNumber: LTC1261IS8#PBF; Frequency(kHz): 550; Ishutdown(uA): 5; Isupply(mA): 0.6; Max Iout(mA): 12; Vin Max(V): 8; Vin Min(V): 3; Voutput: Adj; DatasheetVersion: Rev. B; PackageVersion: Rev. G, 03/2012; PackageReference: S8-8; PackageDescription: 8-Pin Plastic Small Outline (Narrow .150 Inch), Body 4.9 x 3.9 mm, Pitch 1.27 mm; Supplier 1: Digi-Key; Supplier Part Number 1: LTC1261IS8#PBF-ND; Supplier 2: Newark; Supplier Part Number 2: 55M9785; RoHS: TRUE; Mounting Technology: Surface Mount; ComponentLink1Description: Manufacturer URL; ComponentLink1URL: http://www.linear.com/; ComponentLink2Description: Datasheet; ComponentLink2URL: http://cds.linear.com/docs/en/datasheet/1261fb.pdf; ComponentLink3Description: Package Specification; ComponentLink3URL: http://cds.linear.com/docs/en/packaging/05081610_G_SO8.pdf
footprint LT-S8-8_N (SOIC, 8-Leads, Body 5x4mm, Pitch 1.27mm, IPC Medium Density)
footprint LT-S8-8_L (SOIC, 8-Leads, Body 5x4mm, Pitch 1.27mm, IPC High Density)
footprint LT-S8-8_M (SOIC, 8-Leads, Body 5x4mm, Pitch 1.27mm, IPC Low Density)
pins: 1 VCC (power) "Power Supply.", 2 C1+ "C1 Positive Input. Connect a 0.1uF capacitor between C1+ and C1-.", 3 C1- "C1 Negative Input. Connect a 0.1uF capacitor from C1+ to C1-.", 4 GND (power) "Ground. Connect to a low impedance ground. A ground plane will help to minimize regulation errors.", 5 ADJ (in), 6 OUT (power), 7 REG (oc) "This is an open-drain output that pulls low when the output voltage is within 5% of the set value.", 8 SHDN (in) "Shutdown."

## LTC1261IS8#TR
designator U?
Switched Capacitor Regulated Voltage Inverter, 3 to 8 V Vin, Adjustable Vout, 8-pin SOIC (S8-8), -40 to 85 degC, Tape and Reel; Manufacturer: Linear Technology; PartNumber: LTC1261IS8#TR; Frequency(kHz): 550; Ishutdown(uA): 5; Isupply(mA): 0.6; Max Iout(mA): 12; Vin Max(V): 8; Vin Min(V): 3; Voutput: Adj; DatasheetVersion: Rev. B; PackageVersion: Rev. G, 03/2012; PackageReference: S8-8; PackageDescription: 8-Pin Plastic Small Outline (Narrow .150 Inch), Body 4.9 x 3.9 mm, Pitch 1.27 mm; Supplier 1: Digi-Key; Supplier Part Number 1: LTC1261IS8#TR-ND; Packing: Tape and Reel; RoHS: FALSE; Mounting Technology: Surface Mount; ComponentLink1Description: Manufacturer URL; ComponentLink1URL: http://www.linear.com/; ComponentLink2Description: Datasheet; ComponentLink2URL: http://cds.linear.com/docs/en/datasheet/1261fb.pdf; ComponentLink3Description: Package Specification; ComponentLink3URL: http://cds.linear.com/docs/en/packaging/05081610_G_SO8.pdf
footprint LT-S8-8_N (SOIC, 8-Leads, Body 5x4mm, Pitch 1.27mm, IPC Medium Density)
footprint LT-S8-8_L (SOIC, 8-Leads, Body 5x4mm, Pitch 1.27mm, IPC High Density)
footprint LT-S8-8_M (SOIC, 8-Leads, Body 5x4mm, Pitch 1.27mm, IPC Low Density)
pins: 1 VCC (power) "Power Supply.", 2 C1+ "C1 Positive Input. Connect a 0.1uF capacitor between C1+ and C1-.", 3 C1- "C1 Negative Input. Connect a 0.1uF capacitor from C1+ to C1-.", 4 GND (power) "Ground. Connect to a low impedance ground. A ground plane will help to minimize regulation errors.", 5 ADJ (in), 6 OUT (power), 7 REG (oc) "This is an open-drain output that pulls low when the output voltage is within 5% of the set value.", 8 SHDN (in) "Shutdown."

## LTC1261IS8#TRPBF
designator U?
Switched Capacitor Regulated Voltage Inverter, 3 to 8 V Vin, Adjustable Vout, 8-pin SOIC (S8-8), -40 to 85 degC, Pb-Free, Tape and Reel; Manufacturer: Linear Technology; PartNumber: LTC1261IS8#TRPBF; Frequency(kHz): 550; Ishutdown(uA): 5; Isupply(mA): 0.6; Max Iout(mA): 12; Vin Max(V): 8; Vin Min(V): 3; Voutput: Adj; DatasheetVersion: Rev. B; PackageVersion: Rev. G, 03/2012; PackageReference: S8-8; PackageDescription: 8-Pin Plastic Small Outline (Narrow .150 Inch), Body 4.9 x 3.9 mm, Pitch 1.27 mm; Supplier 1: Digi-Key; Supplier Part Number 1: LTC1261IS8#TRPBF-ND; Packing: Tape and Reel; RoHS: TRUE; Mounting Technology: Surface Mount; ComponentLink1Description: Manufacturer URL; ComponentLink1URL: http://www.linear.com/; ComponentLink2Description: Datasheet; ComponentLink2URL: http://cds.linear.com/docs/en/datasheet/1261fb.pdf; ComponentLink3Description: Package Specification; ComponentLink3URL: http://cds.linear.com/docs/en/packaging/05081610_G_SO8.pdf
footprint LT-S8-8_N (SOIC, 8-Leads, Body 5x4mm, Pitch 1.27mm, IPC Medium Density)
footprint LT-S8-8_L (SOIC, 8-Leads, Body 5x4mm, Pitch 1.27mm, IPC High Density)
footprint LT-S8-8_M (SOIC, 8-Leads, Body 5x4mm, Pitch 1.27mm, IPC Low Density)
pins: 1 VCC (power) "Power Supply.", 2 C1+ "C1 Positive Input. Connect a 0.1uF capacitor between C1+ and C1-.", 3 C1- "C1 Negative Input. Connect a 0.1uF capacitor from C1+ to C1-.", 4 GND (power) "Ground. Connect to a low impedance ground. A ground plane will help to minimize regulation errors.", 5 ADJ (in), 6 OUT (power), 7 REG (oc) "This is an open-drain output that pulls low when the output voltage is within 5% of the set value.", 8 SHDN (in) "Shutdown."

## LTC1261LCMS8
designator U?
Switched Capacitor Regulated Voltage Inverter, 2.7 to 5.25 V Vin, Adjustable Vout, 8-pin SOP (MS8-8), 0 to 70 degC; Manufacturer: Linear Technology; PartNumber: LTC1261LCMS8; Frequency(kHz): 650; Ishutdown(uA): 5; Isupply(mA): 0.65; Max Iout(mA): 20; Vin Max(V): 5.25; Vin Min(V): 2.7; Voutput: Adj; DatasheetVersion: Rev. A; PackageVersion: Rev. G, 03/2012; PackageReference: MS8-8; PackageDescription: 8-Pin Plastic MSOP, Body 3 x 3 mm, Pitch 0.65 mm; Supplier 1: Digi-Key; Supplier Part Number 1: LTC1261LCMS8-ND; RoHS: FALSE; Mounting Technology: Surface Mount; ComponentLink1Description: Manufacturer URL; ComponentLink1URL: http://www.linear.com/; ComponentLink2Description: Datasheet; ComponentLink2URL: http://cds.linear.com/docs/en/datasheet/1261lfa.pdf; ComponentLink3Description: Package Specification; ComponentLink3URL: http://cds.linear.com/docs/en/packaging/05081660_G_MS8.pdf
footprint LT-MS8-8_N (SOP, 8-Leads, Body 3.1x3.1mm, Pitch 0.65mm, IPC Medium Density)
footprint LT-MS8-8_L (SOP, 8-Leads, Body 3.1x3.1mm, Pitch 0.65mm, IPC High Density)
footprint LT-MS8-8_M (SOP, 8-Leads, Body 3.1x3.1mm, Pitch 0.65mm, IPC Low Density)
pins: 1 VCC (power) "Power Supply.", 2 C1+ "C1 Positive Input. Connect a 0.1uF capacitor between C1+ and C1-.", 3 C1- "C1 Negative Input. Connect a 0.1uF capacitor from C1+ to C1-.", 4 GND (power) "Ground. Connect to a low impedance ground. A ground plane will help to minimize regulation errors.", 5 ADJ (in), 6 OUT (power), 7 REG (oc) "This is an open-drain output that pulls low when the output voltage is within 5% of the set value.", 8 SHDN (in) "Shutdown."